# Altium footprint library APDS-9004.PcbLib: 1 footprints
Each footprint in its own frame and in the unit in brackets; x right, y up, seen from the top. Pads: shape width x height; smd on the part's side, far side on the other; paste and mask are expansions set on the pad; w line width, h text height; cw(c..) or ccw(c..) is an arc to the next point about the centre after c.
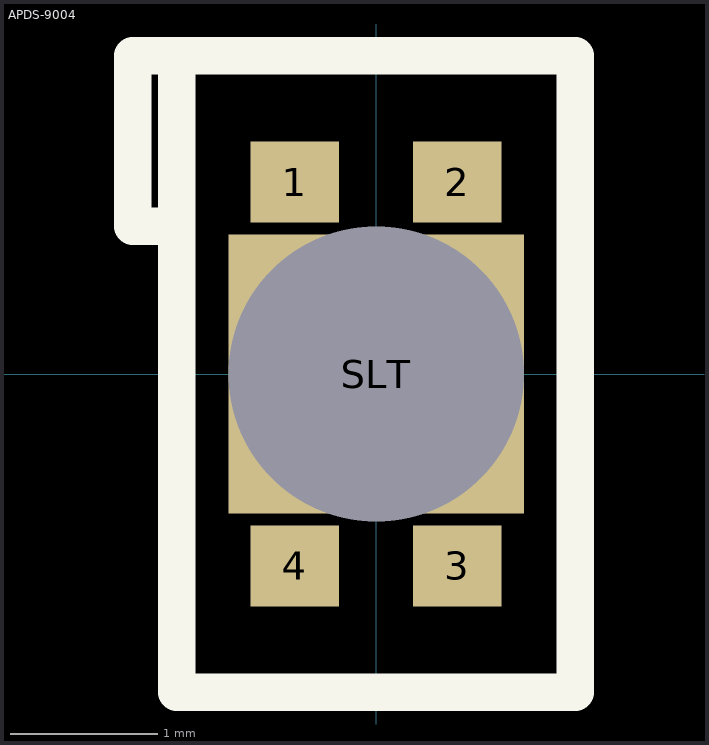
[diagram p0: the footprint, top view; thin cyan lines are the x and y axes]

## APDS-9004 [mm]
pads (5):
  rect 0.6x0.55 smd paste+0: 1(-0.55,1.3) 2(0.55,1.3) 3(0.55,-1.3) 4(-0.55,-1.3)
  rect 2x1.89 hole 2 square unplated paste+0 mask+0: SLT(0,0)
Top Overlay:
  lines w0.254: -1.35,1 -1.65,1 -1.65,2.155 -1.35,2.155 ; -1.35,2.155 1.35,2.155 1.35,-2.155 -1.35,-2.155 -1.35,2.155